# Altium footprint library DSUB25-F90.PcbLib: 1 footprints
Each footprint in its own frame and in the unit in brackets; x right, y up, seen from the top. Pads: shape width x height; smd on the part's side, far side on the other; paste and mask are expansions set on the pad; w line width, h text height; cw(c..) or ccw(c..) is an arc to the next point about the centre after c.
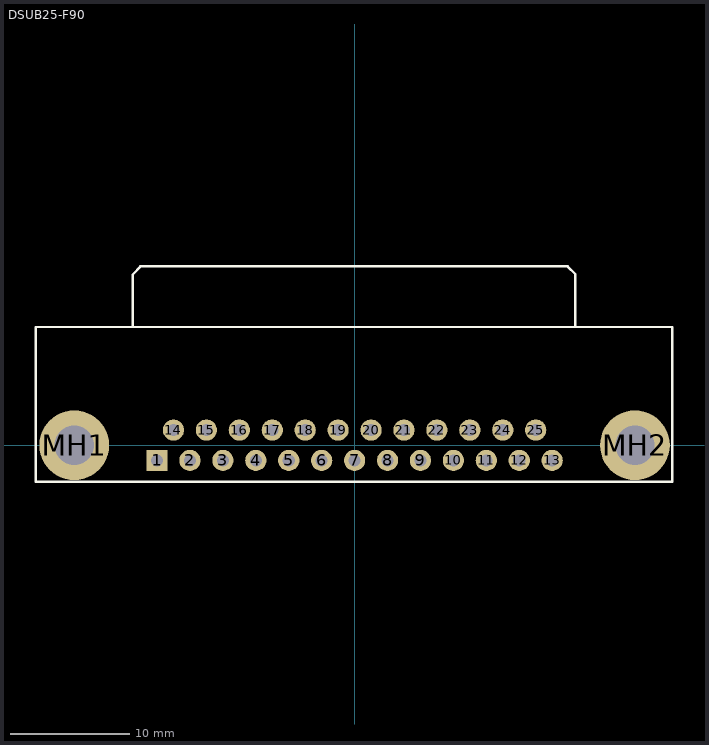
[diagram p0: the footprint, top view; thin cyan lines are the x and y axes]

## DSUB25-F90 [mil]
pads (27):
  rect 70x70 hole 40: 1(-651.97,-50)
  round 70 hole 40: 2(-543.31,-50) 3(-434.65,-50) 4(-325.98,-50) 5(-217.32,-50) 6(-108.66,-50) 7(0,-50) 8(108.66,-50) 9(217.32,-50) 10(325.98,-50) 11(434.65,-50) 12(543.31,-50) 13(651.97,-50) 14(-597.64,50) 15(-488.98,50) 16(-380.31,50) 17(-271.65,50) 18(-162.99,50) 19(-54.33,50) 20(54.33,50) 21(162.99,50) 22(271.65,50) 23(380.32,50) 24(488.98,50) 25(597.64,50)
  round 230 hole 130: MH1(-925.2,0) MH2(925.2,0)
Top Overlay:
  lines w8: -731.97,390 -731.97,563.23 -706.97,590 703.03,590 728.03,565 728.03,390 ; -1051.97,-120 1048.03,-120 1048.03,390 -1051.97,390 -1051.97,-120